# Altium footprint library TPS62827DMQR.PcbLib: 1 footprints
Each footprint in its own frame and in the unit in brackets; x right, y up, seen from the top. Pads: shape width x height; smd on the part's side, far side on the other; paste and mask are expansions set on the pad; w line width, h text height; cw(c..) or ccw(c..) is an arc to the next point about the centre after c.
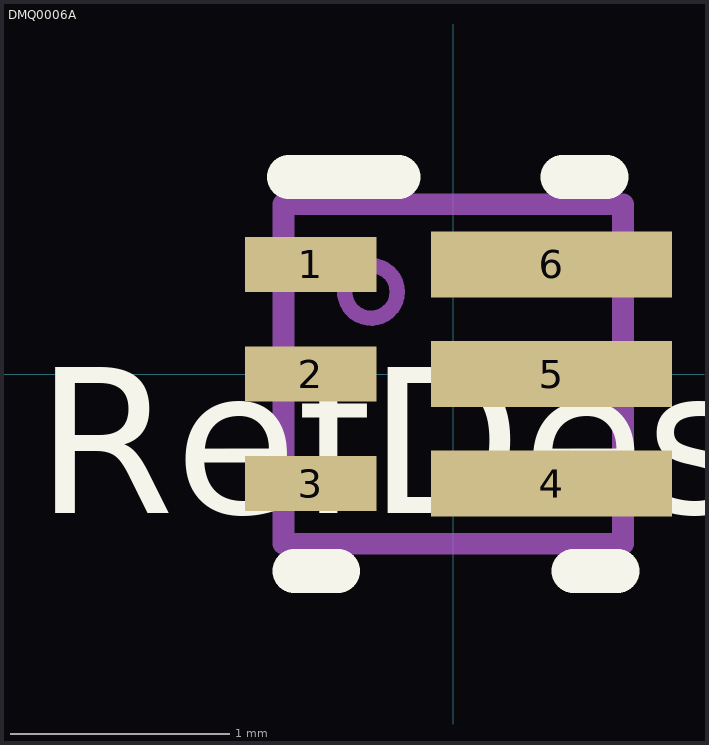
[diagram p0: the footprint, top view; thin cyan lines are the x and y axes]

## DMQ0006A [mm]
pads (6):
  rect 0.6x0.25 smd paste+0 mask+0: 1(-0.65,0.5) 2(-0.65,0) 3(-0.65,-0.5)
  rect 1.1x0.3 smd paste-0.537 mask-0.051: 4(0.45,-0.5) 5(0.45,0) 6(0.45,0.5)
Top Overlay:
  lines w0.2: -0.75,0.9 -0.25,0.9 ; -0.725,-0.9 -0.525,-0.9 ; 0.5,0.9 0.7,0.9 ; 0.55,-0.9 0.75,-0.9
  text "RefDes" at -1.905,-0.635 h1.27
Top Paste:
  region: 0.101,-0.56 0.1,-0.55 0.1,-0.45 0.101,-0.44 0.104,-0.431 0.108,-0.422 0.115,-0.415 0.122,-0.408 0.131,-0.404 0.14,-0.401 0.15,-0.4 0.9,-0.4 0.91,-0.401 0.919,-0.404 0.928,-0.408 0.935,-0.415 0.942,-0.422 0.946,-0.431 0.949,-0.44 0.95,-0.45 0.95,-0.55 0.949,-0.56 0.946,-0.569 0.942,-0.578 0.935,-0.585 0.928,-0.592 0.919,-0.596 0.91,-0.599 0.9,-0.6 0.15,-0.6 0.14,-0.599 0.131,-0.596 0.122,-0.592 0.115,-0.585 0.108,-0.578 0.104,-0.569
  region: 0.101,-0.06 0.1,-0.05 0.1,0.05 0.101,0.06 0.104,0.069 0.108,0.078 0.115,0.085 0.122,0.092 0.131,0.096 0.14,0.099 0.15,0.1 0.9,0.1 0.91,0.099 0.919,0.096 0.928,0.092 0.935,0.085 0.942,0.078 0.946,0.069 0.949,0.06 0.95,0.05 0.95,-0.05 0.949,-0.06 0.946,-0.069 0.942,-0.078 0.935,-0.085 0.928,-0.092 0.919,-0.096 0.91,-0.099 0.9,-0.1 0.15,-0.1 0.14,-0.099 0.131,-0.096 0.122,-0.092 0.115,-0.085 0.108,-0.078 0.104,-0.069
  region: 0.101,0.44 0.1,0.45 0.1,0.55 0.101,0.56 0.104,0.569 0.108,0.578 0.115,0.585 0.122,0.592 0.131,0.596 0.14,0.599 0.15,0.6 0.9,0.6 0.91,0.599 0.919,0.596 0.928,0.592 0.935,0.585 0.942,0.578 0.946,0.569 0.949,0.56 0.95,0.55 0.95,0.45 0.949,0.44 0.946,0.431 0.942,0.422 0.935,0.415 0.928,0.408 0.919,0.404 0.91,0.401 0.9,0.4 0.15,0.4 0.14,0.401 0.131,0.404 0.122,0.408 0.115,0.415 0.108,0.422 0.104,0.431
Mechanical 13:
  circle w0.07: c-0.375,0.375 r0.12
  lines w0.1: -0.775,-0.775 -0.775,0.775 0.775,0.775 0.775,-0.775 -0.775,-0.775